# EAGLE library part MOLEX_105133-0011 (library CASE-USB)
MOLEX 105133-0011 - USB 2.0, B micro-type connector, Vertical Description: MOLEX 105133-0011 - USB 2.0, B micro-type connector, Vertical version Links: Datasheet <https://docs-emea.rs-online.com/webdocs/15eb/0900766b815eb45a.pdf>
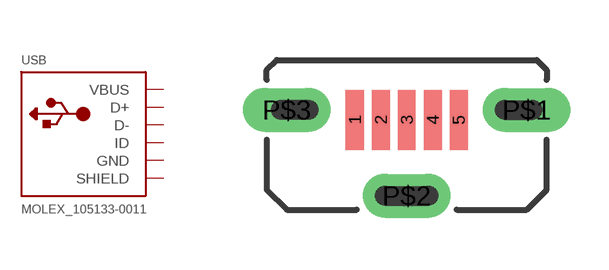
[diagram p2: symbol with the pads of MOLEX_105133-0011; footprint MOLEX_105133-0011]

Designator prefix USB

## MOLEX_105133-0011  [MOLEX_105133-0011]
1  VBUS  pwr
2  D-
3  D+
4  ID
5  GND  pwr
P$1  SHIELD  pwr
P$2  SHIELD  pwr
P$3  SHIELD  pwr

## Footprint MOLEX_105133-0011 (pad centres in mm)
MOLEX 48408-0003 Datasheet <https://docs-emea.rs-online.com/webdocs/144c/0900766b8144c2a5.pdf>
smd 0.45 x 1.5: 1 -1.3,0; 2 -0.65,0; 3 0,0; 4 0.65,0; 5 1.3,0
drill 0.5 pad 1.1 long: P$1 3,0.25; P$2 0,-1.9; P$3 -3,0.25